# EAGLE library part RJ45-JP011-PE (library JLB6_Connec)
PulseJack : RJ45 + led + transfo
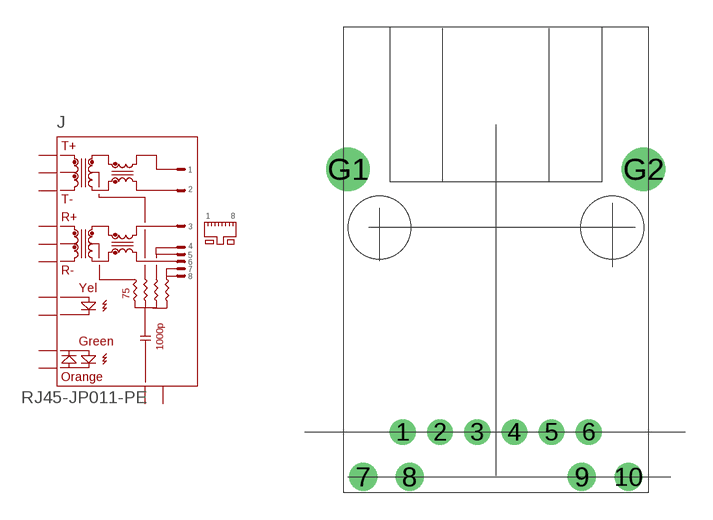
[diagram p10: symbol with the pads of JP011_PE; footprint JP011_PE]

Designator prefix J

## RJ45-JP011-PE  [JP011_PE]
1  TCT
2  TD+
3  TD-
4  RD+
5  RD-
6  RCT
7  L1C
8  L1A
9  L2C
10  L2A
G1  G1
G2  G2

## Footprint JP011_PE (pad centres in mm)
drill 0.889: 1 -5.08,-11.176; 2 -3.048,-11.176; 3 -1.016,-11.176; 4 1.016,-11.176; 5 3.048,-11.176; 6 5.067,-11.176
drill 1.016: 7 -7.239,-13.614; 8 -4.699,-13.614; 9 4.699,-13.614; 10 7.239,-13.614
drill 1.575 pad 2.184: G1 -8.065,3.175; G2 8.065,3.175
hole 3.429 at -6.35,0
hole 3.429 at 6.35,0